# EAGLE library part BEAGLEBONE_BLACK (library e14_BeagleBoneBlack_RevA)
BeagleBone Black Rev. C device with associated package to help create a cape. NOTE: Other considerations when making a Cape (mechanical allowances for tall BBB components, EEPROM requirements, and power ratings) can be found in the BBB System Reference Manual More information available at http://www.element14.com/community/community/designcenter/single-board-computers/next-gen_beaglebone
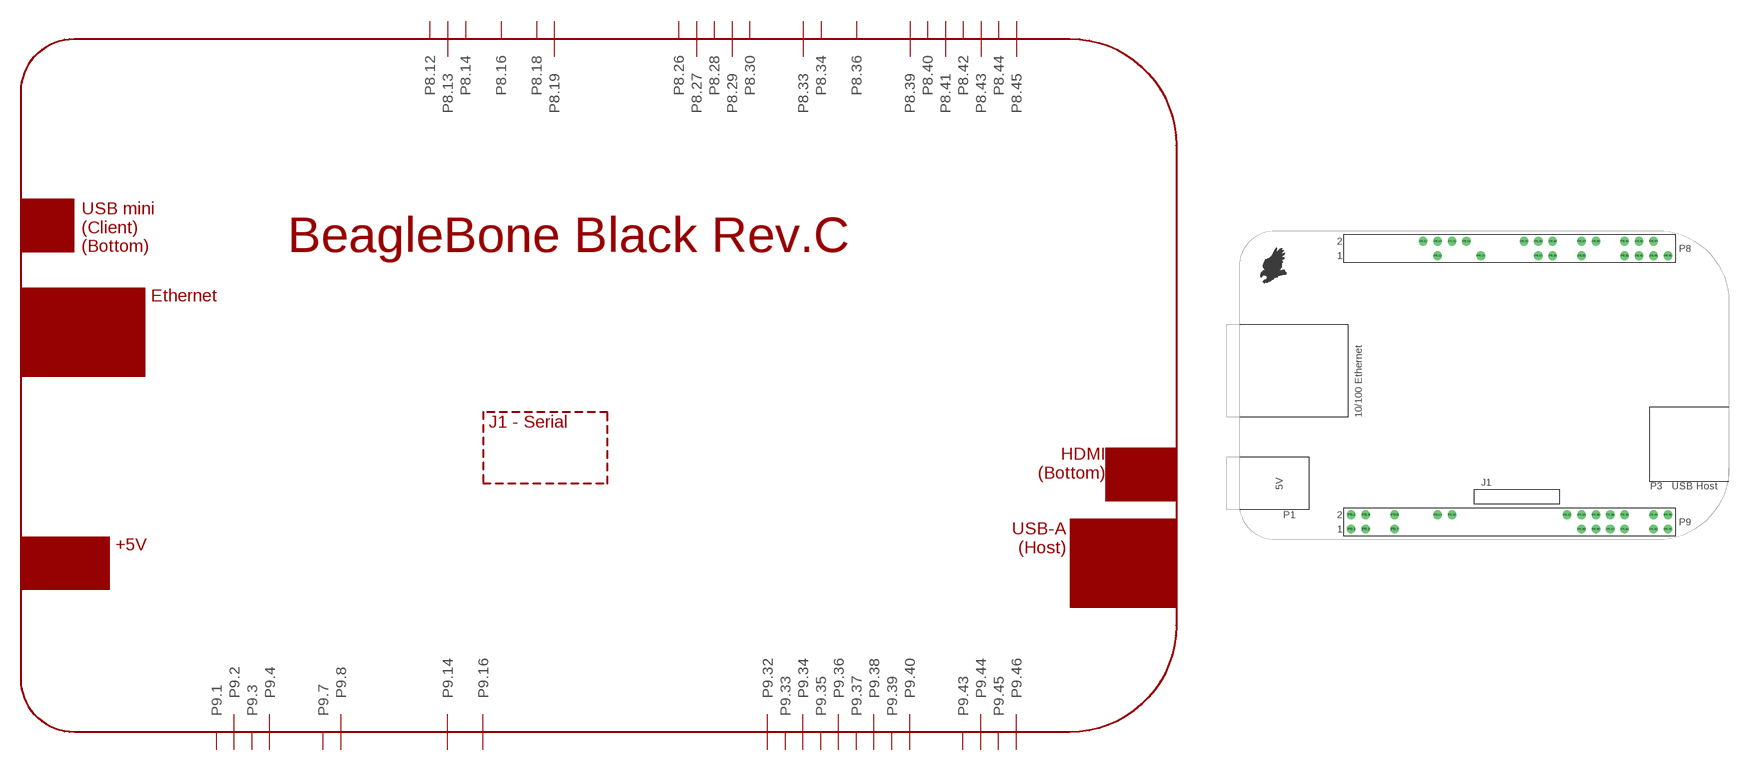
[diagram p0: symbol with the pads of BEAGLEBONE_BLACK; footprint BEAGLEBONE_BLACK]

Designator prefix PCB

## BEAGLEBONE_BLACK  [BEAGLEBONE_BLACK]
P8.12  P8.12
P8.13  P8.13
P8.14  P8.14
P8.16  P8.16
P8.18  P8.18
P8.19  P8.19
P8.26  P8.26
P8.27  P8.27
P8.28  P8.28
P8.29  P8.29
P8.30  P8.30
P8.33  P8.33
P8.34  P8.34
P8.36  P8.36
P8.39  P8.39
P8.40  P8.40
P8.41  P8.41
P8.42  P8.42
P8.43  P8.43
P8.44  P8.44
P8.45  P8.45
P9.1  P9.1
P9.2  P9.2
P9.3  P9.3
P9.4  P9.4
P9.7  P9.7
P9.8  P9.8
P9.14  P9.14
P9.16  P9.16
P9.32  P9.32
P9.33  P9.33
P9.34  P9.34
P9.35  P9.35
P9.36  P9.36
P9.37  P9.37
P9.38  P9.38
P9.39  P9.39
P9.40  P9.40
P9.43  P9.43
P9.44  P9.44
P9.45  P9.45
P9.46  P9.46

## Footprint BEAGLEBONE_BLACK (pad centres in mm)
Package for BeagleBone Black Rev. C board.
drill 1.016: P8.12 32.385,52.705; P8.13 34.925,50.165; P8.14 34.925,52.705; P8.16 37.465,52.705; P8.18 40.005,52.705; P8.19 42.545,50.165; P8.26 50.165,52.705; P8.27 52.705,50.165; P8.28 52.705,52.705; P8.29 55.245,50.165; P8.30 55.245,52.705; P8.33 60.325,50.165; P8.34 60.325,52.705; P8.36 62.865,52.705; P8.39 67.945,50.165; P8.40 67.945,52.705; P8.41 70.485,50.165; P8.42 70.485,52.705; P8.43 73.025,50.165; P8.44 73.025,52.705; P8.45 75.565,50.165; P9.1 19.685,1.905; P9.2 19.685,4.445; P9.3 22.225,1.905; P9.4 22.225,4.445; P9.7 27.305,1.905; P9.8 27.305,4.445; P9.14 34.925,4.445; P9.16 37.465,4.445; P9.32 57.785,4.445; P9.33 60.325,1.905; P9.34 60.325,4.445; P9.35 62.865,1.905; P9.36 62.865,4.445; P9.37 65.405,1.905; P9.38 65.405,4.445; P9.39 67.945,1.905; P9.40 67.945,4.445; P9.43 73.025,1.905; P9.44 73.025,4.445; P9.45 75.565,1.905; P9.46 75.565,4.445